# Altium integrated library Capacitors.IntLib: 16 symbols
Pins are listed as number, name and electrical type; pins without a type are passive.

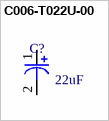
[diagram p0: symbol C006-T022U-00]

## C006-T022U-00
designator C?  value 22uF  (hidden comment: C006-T022U-00)
CAP TANT 1206 22uF 6.3V 2.5ohm 20%; Package: Molded 1206; Tolerance: 20%; Voltage: 6.3V; Supplier 1: Digi-Key; Supplier Part Number 1: 478-8164-1-ND
footprint Tantalum-1206 (Tantalum Capacitor, 1206 Package)
pins: 1, 2


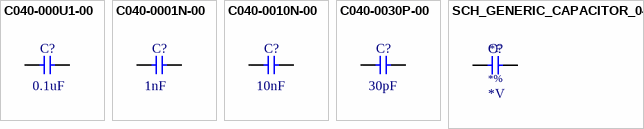
[diagram p1: symbols C040-000U1-00 to SCH_GENERIC_CAPACITOR_0402]

## C040-000U1-00
designator C?  value 0.1uF  (hidden comment: C040-000U1-00)
CAP CER 0402 0.1uF 10V X5R 10%; Tolerance: 10%; Voltage: 10V; Package: 0402
footprint CAPC1005X06N (Chip Capacitor, 2-Leads, Body 1.00x0.50mm, IPC Medium Density)
pins: 1, 2

## C040-0001N-00
designator C?  value 1nF  (hidden comment: C040-0001N-00)
CAP CER 0402 1nF 50V X7R 10%; Package: 0402; Tolerance: 10%; Voltage: 50V
footprint CAPC1005X06N (Chip Capacitor, 2-Leads, Body 1.00x0.50mm, IPC Medium Density)
pins: 1, 2

## C040-0010N-00
designator C?  value 10nF  (hidden comment: C040-0010N-00)
CAP CER 0402 10nF 50V X7R 10%; Package: 0402; Tolerance: 10%; Voltage: 50V
footprint CAPC1005X06N (Chip Capacitor, 2-Leads, Body 1.00x0.50mm, IPC Medium Density)
pins: 1, 2

## C040-0030P-00
designator C?  value 30pF  (hidden comment: C040-0030P-00)
CAP CER 0402 30pF 25V NP0 5%; Tolerance: 5%; Voltage: 25V; Package: 0402
footprint CAPC1005X06N (Chip Capacitor, 2-Leads, Body 1.00x0.50mm, IPC Medium Density)
pins: 1, 2

## SCH_GENERIC_CAPACITOR_0402
designator C?  Tolerance: *%  Capacitance: *F  Voltage: *V  (hidden comment: SCH_GENERIC_CAPACITOR_0402)
Generic SMD capacitor 0402
footprint CAPC1005X06N (Chip Capacitor, 2-Leads, Body 1.00x0.50mm, IPC Medium Density)
pins: 1, 2


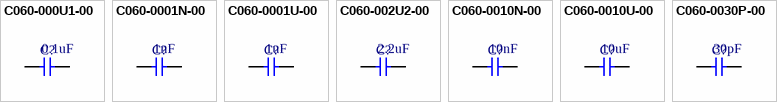
[diagram p2: symbols C060-000U1-00 to C060-0030P-00]

## C060-000U1-00
designator C?  value 0.1uF  (hidden comment: C060-000U1-00)
CAP CER 0603 0.1uF 16V X5R 20%; Tolerance: 20%; Voltage: 16V; Package: 0603
footprint PCB_GENERIC_SMD_0603
pins: 1, 2

## C060-0001N-00
designator C?  value 1nF  (hidden comment: C060-0001N-00)
CAP CER 0603 1nF 50V X7R 10%; Tolerance: 10%; Voltage: 50V; Package: 0603
footprint PCB_GENERIC_SMD_0603
pins: 1, 2

## C060-0001U-00
designator C?  value 1uF  (hidden comment: C060-0001U-00)
CAP CER 0603 1uF 16V X5R 20%; Tolerance: 20%; Voltage: 16V; Package: 0603
footprint PCB_GENERIC_SMD_0603
pins: 1, 2

## C060-002U2-00
designator C?  value 2.2uF  (hidden comment: C060-002U2-00)
CAP CER 0603 2.2uF 16V X5R 20%; Tolerance: 20%; Voltage: 16V; Package: 0603
footprint PCB_GENERIC_SMD_0603
pins: 1, 2

## C060-0010N-00
designator C?  value 10nF  (hidden comment: C060-0010N-00)
CAP CER 0603 10nF 50V X7R 10%; Tolerance: 10%; Voltage: 50V; Package: 0603
footprint PCB_GENERIC_SMD_0603
pins: 1, 2

## C060-0010U-00
designator C?  value 10uF  (hidden comment: C060-0010U-00)
CAP CER 0603 10uF 6.3V X5R 20%; Tolerance: 20%; Voltage: 6.3V; Package: 0603
footprint PCB_GENERIC_SMD_0603
pins: 1, 2

## C060-0030P-00
designator C?  value 30pF  (hidden comment: C060-0030P-00)
CAP CER 0603 30pF 50V NP0 5%; Tolerance: 5%; Voltage: 50V; Package: 0603
footprint PCB_GENERIC_SMD_0603
pins: 1, 2


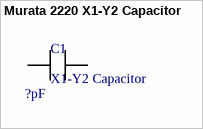
[diagram p3: symbol Murata 2220 X1-Y2 Capacitor]

## Murata 2220 X1-Y2 Capacitor
designator C1, comment X1-Y2 Capacitor  Capacitance: ?pF
footprint Murata 2220 X1-Y2 Capacitor (Footprint not found)
pins: 1, 2


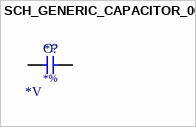
[diagram p4: symbol SCH_GENERIC_CAPACITOR_0603]

## SCH_GENERIC_CAPACITOR_0603
designator C?  Tolerance: *%  Capacitance: *F  Voltage: *V  (hidden comment: SCH_GENERIC_CAPACITOR_0603)
Generic SMD capacitor 0603
footprint PCB_GENERIC_SMD_0603
pins: 1, 2


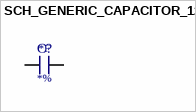
[diagram p5: symbol SCH_GENERIC_CAPACITOR_1210]

## SCH_GENERIC_CAPACITOR_1210
designator C?  Tolerance: *%  Capacitance: *F  (hidden comment: SCH_GENERIC_CAPACITOR_1210)
Generic SMD capacitor 1210
footprint PCB_GENERIC_CAPACITOR_1210 (Chip Capacitor, 2-Leads, Body 3.20x2.50mm, IPC Medium Density)
pins: 1, 2